# EAGLE library part ATMEGA328P-MU-NEW (library Fuzzy)
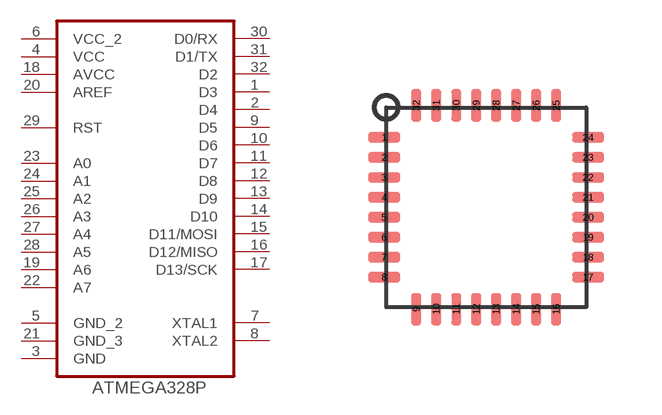
[diagram p2: symbol with the pads of QFN32-MINIMAL; footprint QFN32-MINIMAL]

Designator prefix -

## ATMEGA328P-MU-NEW  [QFN32-MINIMAL]
1  D3
2  D4
3  GND  pas
4  VCC  pwr
5  GND_2  pas
6  VCC_2  pwr
7  XTAL1
8  XTAL2
9  D5
10  D6
11  D7
12  D8
13  D9
14  D10
15  D11/MOSI
16  D12/MISO
17  D13/SCK
18  AVCC  pwr
19  A6  in
20  AREF  in
21  GND_3  pas
22  A7  in
23  A0
24  A1
25  A2
26  A3
27  A4
28  A5
29  RST
30  D0/RX
31  D1/TX
32  D2

## Footprint QFN32-MINIMAL (pad centres in mm)
smd 0.8 x 0.25: 1 -2.55,1.75; 2 -2.55,1.25; 3 -2.55,0.75; 4 -2.55,0.25; 5 -2.55,-0.25; 6 -2.55,-0.75; 7 -2.55,-1.25; 8 -2.55,-1.75; 17 2.55,-1.75; 18 2.55,-1.25; 19 2.55,-0.75; 20 2.55,-0.25; 21 2.55,0.25; 22 2.55,0.75; 23 2.55,1.25; 24 2.55,1.75
smd 0.25 x 0.8: 9 -1.75,-2.55; 10 -1.25,-2.55; 11 -0.75,-2.55; 12 -0.25,-2.55; 13 0.25,-2.55; 14 0.75,-2.55; 15 1.25,-2.55; 16 1.75,-2.55; 25 1.75,2.55; 26 1.25,2.55; 27 0.75,2.55; 28 0.25,2.55; 29 -0.25,2.55; 30 -0.75,2.55; 31 -1.25,2.55; 32 -1.75,2.55